# EAGLE library part TEXAS_REF32* (library 52101-101-REV-A_v16 v5)
VOLTAGE REFERENCE Low-Noise, Very Low Drift, Precision
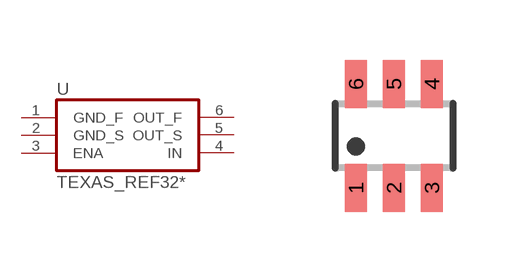
[diagram p7: symbol with the pads of TEXAS_SOT23-6; footprint TEXAS_SOT23-6]

Designator prefix U

## TEXAS_REF32, TEXAS_REF3212 (VOLTAGE: 1.25V), TEXAS_REF3220 (VOLTAGE: 2.048V), TEXAS_REF3225 (VOLTAGE: 2.5V), TEXAS_REF3230 (VOLTAGE: 3.0V), TEXAS_REF3233 (VOLTAGE: 3.3V), TEXAS_REF3240 (VOLTAGE: 4.096V)  [TEXAS_SOT23-6]
1  GND_F  in
2  GND_S  in
3  ENA  in
4  IN  in
5  OUT_S  pas
6  OUT_F  pas

## Footprint TEXAS_SOT23-6 (pad centres in mm)
SOT-23 - DBV 0.95 mm pitch
smd 0.55 x 1.2: 1 -0.95,-1.3; 2 0,-1.3; 3 0.95,-1.3; 4 0.95,1.3; 5 0,1.3; 6 -0.95,1.3